# Altium schematic symbol library CGA3E1X7R1V474M080AC.SchLib: 1 symbol
Pins are listed as number, name and electrical type; pins without a type are passive.

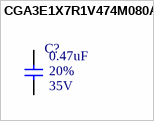
[diagram p0: symbol CGA3E1X7R1V474M080AC]

## CGA3E1X7R1V474M080AC
designator C?  Rated Voltage: 35V  Tolerance: 20%  Capacitence: 0.47uF  (hidden comment: CGA3E1X7R1V474M080AC)
CAP CER 0.47UF 35V X7R 0603; MFR: TDK Corporation; PN: CGA3E1X7R1V474M080AC; ComponentLink1Description: Datasheet; ComponentLink1URL: https://product.tdk.com/info/en/catalog/datasheets/mlcc_automotive_general_en.pdf?ref_disty=digikey; Temperature Coefficient: X7R; Package: 0603; Footprint: C0603; Supplier 1: Digi-Key; Supplier Part Number 1: 445-12554-1-ND
footprint C0603 (Generic C0603 Footprint)
pins: 1, 2